# EAGLE library part EBAY-SD-SOCKET (library openbuilds-eagle-library)
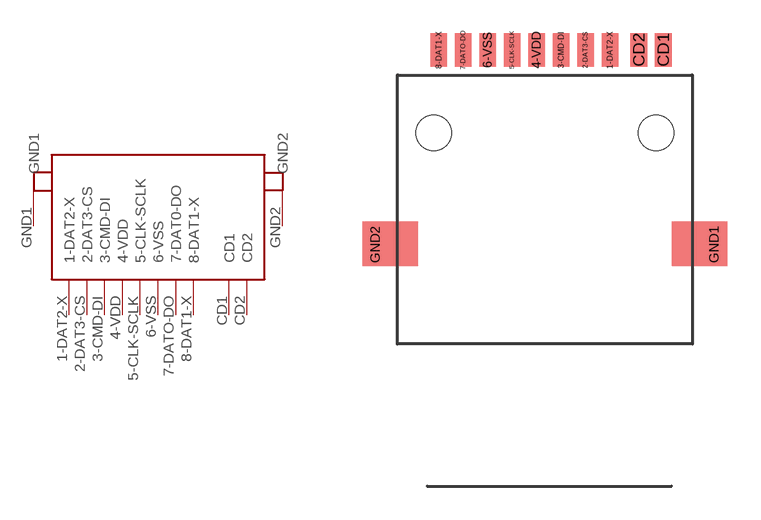
[diagram p1: symbol with the pads of EBAY-SD-SOCKET; footprint EBAY-SD-SOCKET]

Designator prefix -

## EBAY-SD-SOCKET  [EBAY-SD-SOCKET]
1-DAT2-X  1-DAT2-X
2-DAT3-CS  2-DAT3-CS
3-CMD-DI  3-CMD-DI
4-VDD  4-VDD
5-CLK-SCLK  5-CLK-SCLK
6-VSS  6-VSS
7-DATO-DO  7-DAT0-DO
8-DAT1-X  8-DAT1-X
CD1  CD1
CD2  CD2
GND1  GND1
GND2  GND2

## Footprint EBAY-SD-SOCKET (pad centres in mm)
OLD Production Socket. DO NOT USE for production boards.
smd 0.75 x 1.5: 1-DAT2-X 2.925,1.125; 2-DAT3-CS 1.825,1.125; 3-CMD-DI 0.725,1.125; 4-VDD -0.375,1.125; 5-CLK-SCLK -1.475,1.125; 6-VSS -2.575,1.125; 7-DATO-DO -3.675,1.125; 8-DAT1-X -4.775,1.125; CD1 5.325,1.125; CD2 4.225,1.125
smd 0.635 x 1.27: GND1 7.62,-7.62; GND2 -7.62,-7.62
hole 1.6 at -5,-2.6
hole 1.6 at 5,-2.6